# Altium footprint library CAP_450V_330uF.PcbLib: 1 footprints
Each footprint in its own frame and in the unit in brackets; x right, y up, seen from the top. Pads: shape width x height; smd on the part's side, far side on the other; paste and mask are expansions set on the pad; w line width, h text height; cw(c..) or ccw(c..) is an arc to the next point about the centre after c.
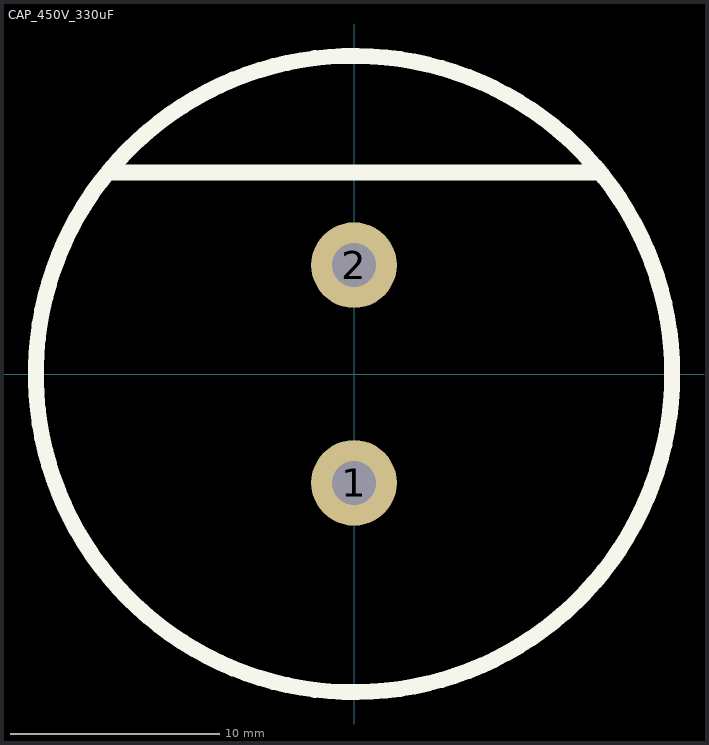
[diagram p0: the footprint, top view; thin cyan lines are the x and y axes]

## CAP_450V_330uF [mm]
pads (2):
  round 4.1 hole 2.1: 1(0,-5.207) 2(0,5.207)
Top Overlay:
  circle w0.762: c0,0 r15.226
  lines w0.762: -11.684,9.652 11.684,9.652
3D body "Yadacon 450V 330uF CD29H.STEP": height 52.45, standoff -4.85, extent -15.1,-15.2 15.15,15.1